# EAGLE library part AT91SAM9260 (library kwoo)
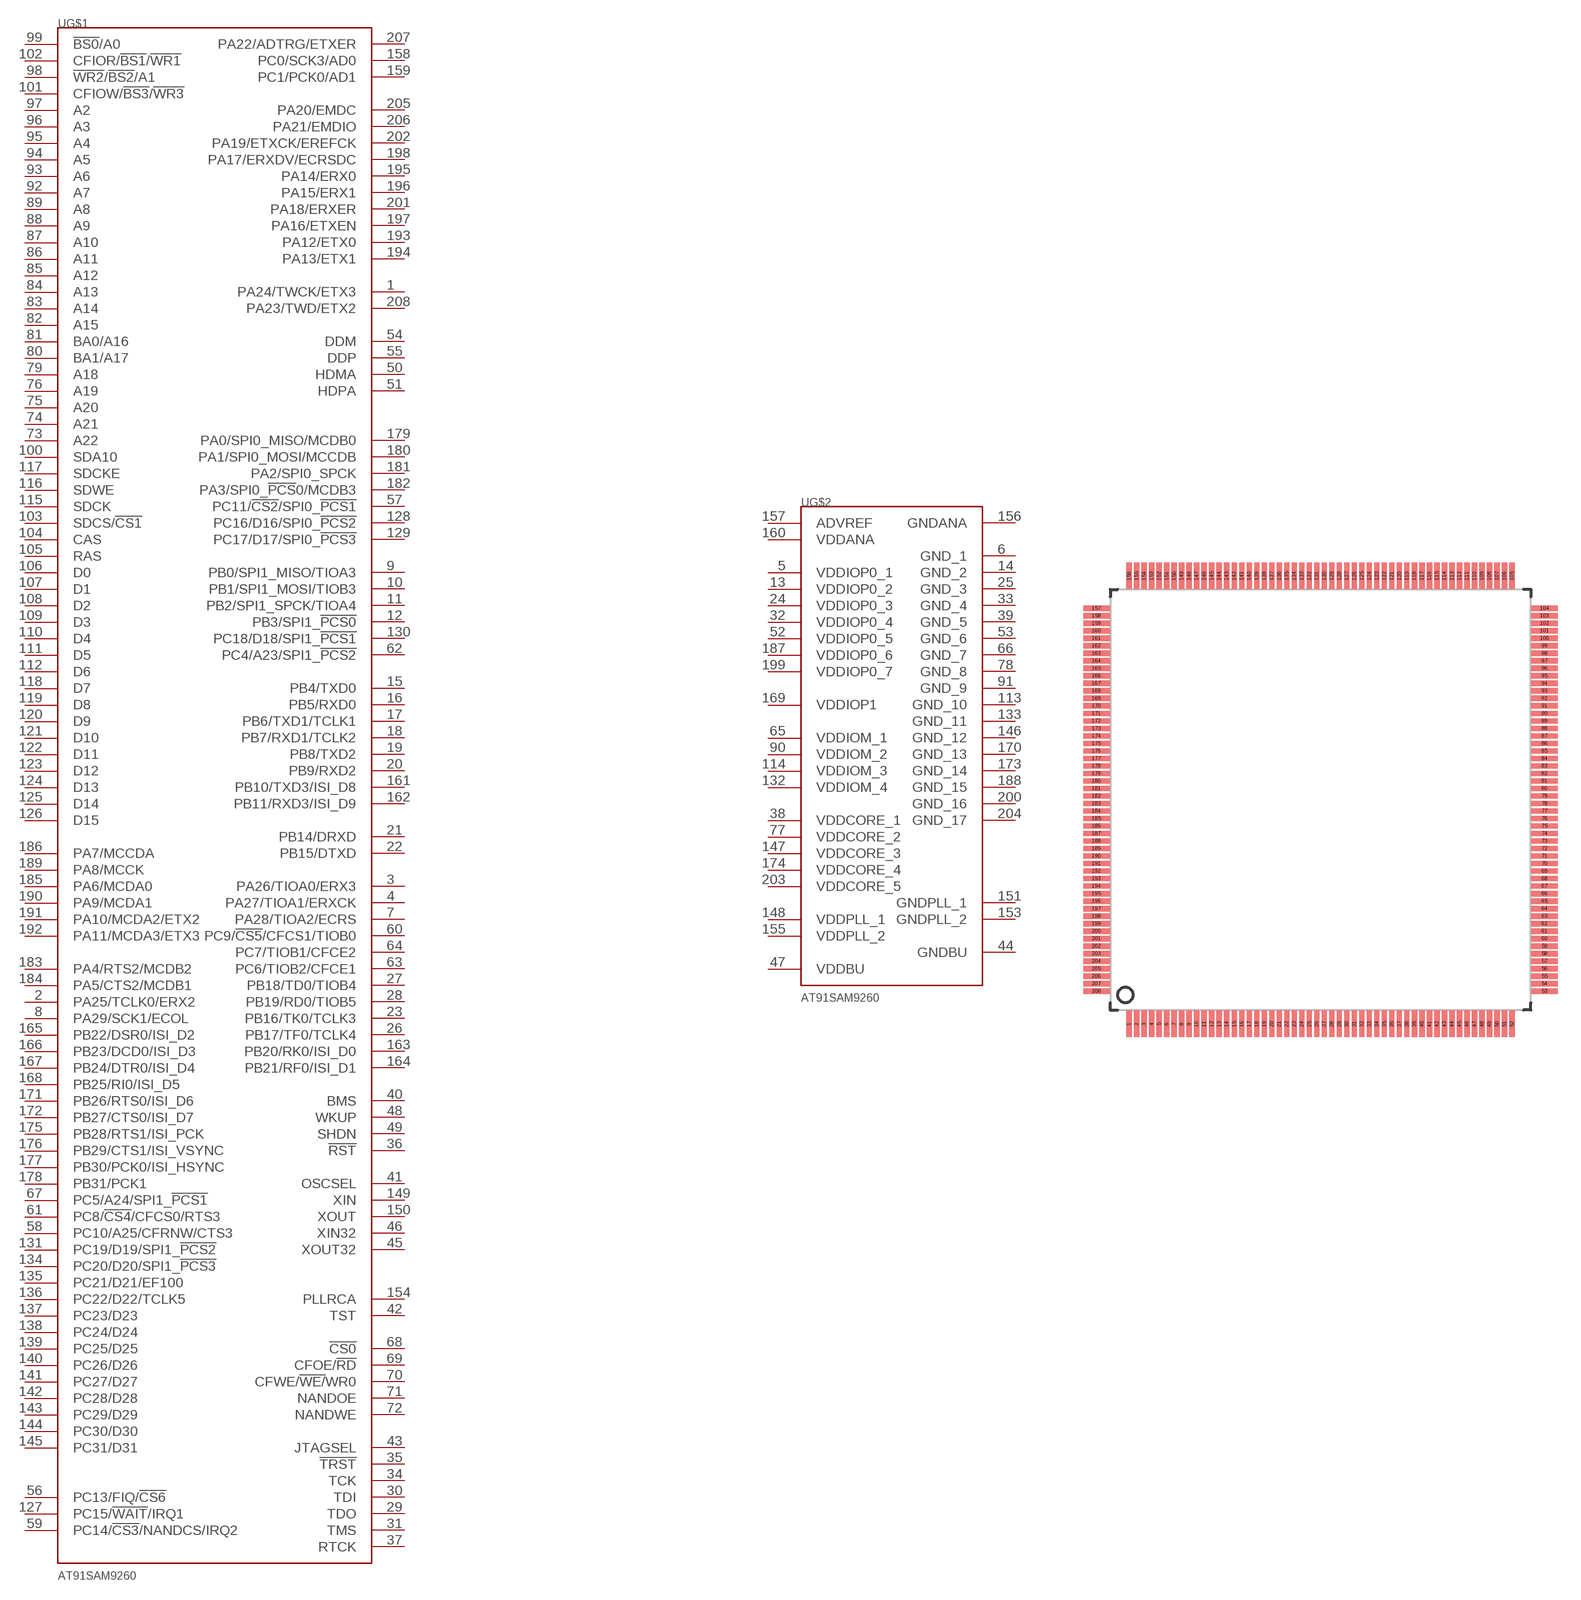
[diagram p34: symbol with the pads of 208-PQFP; footprint 208-PQFP]

Designator prefix U; gates G$1=AT91SAM9260 G$2=AT91SAM9260_PWR

## AT91SAM9260  [208-PQFP]
1  G$1:PA24/TWCK/ETX3
2  G$1:PA25/TCLK0/ERX2
3  G$1:PA26/TIOA0/ERX3
4  G$1:PA27/TIOA1/ERXCK
5  G$2:VDDIOP0_1
6  G$2:GND_1
7  G$1:PA28/TIOA2/ECRS
8  G$1:PA29/SCK1/ECOL
9  G$1:PB0/SPI1_MISO/TIOA3
10  G$1:PB1/SPI1_MOSI/TIOB3
11  G$1:PB2/SPI1_SPCK/TIOA4
12  G$1:PB3/SPI1_!PCS0
13  G$2:VDDIOP0_2
14  G$2:GND_2
15  G$1:PB4/TXD0
16  G$1:PB5/RXD0
17  G$1:PB6/TXD1/TCLK1
18  G$1:PB7/RXD1/TCLK2
19  G$1:PB8/TXD2
20  G$1:PB9/RXD2
21  G$1:PB14/DRXD
22  G$1:PB15/DTXD
23  G$1:PB16/TK0/TCLK3
24  G$2:VDDIOP0_3
25  G$2:GND_3
26  G$1:PB17/TF0/TCLK4
27  G$1:PB18/TD0/TIOB4
28  G$1:PB19/RD0/TIOB5
29  G$1:TDO
30  G$1:TDI
31  G$1:TMS
32  G$2:VDDIOP0_4
33  G$2:GND_4
34  G$1:TCK
35  G$1:!TRST
36  G$1:!RST
37  G$1:RTCK
38  G$2:VDDCORE_1
39  G$2:GND_5
40  G$1:BMS
41  G$1:OSCSEL
42  G$1:TST
43  G$1:JTAGSEL
44  G$2:GNDBU
45  G$1:XOUT32
46  G$1:XIN32
47  G$2:VDDBU
48  G$1:WKUP
49  G$1:SHDN
50  G$1:HDMA
51  G$1:HDPA
52  G$2:VDDIOP0_5
53  G$2:GND_6
54  G$1:DDM
55  G$1:DDP
56  G$1:PC13/FIQ/!CS6
57  G$1:PC11/!CS2!/SPI0_!PCS1
58  G$1:PC10/A25/CFRNW/CTS3
59  G$1:PC14/!CS3!/NANDCS/IRQ2
60  G$1:PC9/!CS5!/CFCS1/TIOB0
61  G$1:PC8/!CS4!/CFCS0/RTS3
62  G$1:PC4/A23/SPI1_!PCS2
63  G$1:PC6/TIOB2/CFCE1
64  G$1:PC7/TIOB1/CFCE2
65  G$2:VDDIOM_1
66  G$2:GND_7
67  G$1:PC5/A24/SPI1_!PCS1
68  G$1:!CS0
69  G$1:CFOE/!RD
70  G$1:CFWE/!WE/!WR0
71  G$1:NANDOE
72  G$1:NANDWE
73  G$1:A22
74  G$1:A21
75  G$1:A20
76  G$1:A19
77  G$2:VDDCORE_2
78  G$2:GND_8
79  G$1:A18
80  G$1:BA1/A17
81  G$1:BA0/A16
82  G$1:A15
83  G$1:A14
84  G$1:A13
85  G$1:A12
86  G$1:A11
87  G$1:A10
88  G$1:A9
89  G$1:A8
90  G$2:VDDIOM_2
91  G$2:GND_9
92  G$1:A7
93  G$1:A6
94  G$1:A5
95  G$1:A4
96  G$1:A3
97  G$1:A2
98  G$1:!WR2!/!BS2!/A1
99  G$1:!BS0!/A0
100  G$1:SDA10
101  G$1:CFIOW/!BS3!/!WR3
102  G$1:CFIOR/!BS1!/!WR1!
103  G$1:SDCS/!CS1
104  G$1:CAS
105  G$1:RAS
106  G$1:D0
107  G$1:D1
108  G$1:D2
109  G$1:D3
110  G$1:D4
111  G$1:D5
112  G$1:D6
113  G$2:GND_10
114  G$2:VDDIOM_3
115  G$1:SDCK
116  G$1:SDWE
117  G$1:SDCKE
118  G$1:D7
119  G$1:D8
120  G$1:D9
121  G$1:D10
122  G$1:D11
123  G$1:D12
124  G$1:D13
125  G$1:D14
126  G$1:D15
127  G$1:PC15/!WAIT!/IRQ1
128  G$1:PC16/D16/SPI0_!PCS2
129  G$1:PC17/D17/SPI0_!PCS3
130  G$1:PC18/D18/SPI1_!PCS1
131  G$1:PC19/D19/SPI1_!PCS2
132  G$2:VDDIOM_4
133  G$2:GND_11
134  G$1:PC20/D20/SPI1_!PCS3
135  G$1:PC21/D21/EF100
136  G$1:PC22/D22/TCLK5
137  G$1:PC23/D23
138  G$1:PC24/D24
139  G$1:PC25/D25
140  G$1:PC26/D26
141  G$1:PC27/D27
142  G$1:PC28/D28
143  G$1:PC29/D29
144  G$1:PC30/D30
145  G$1:PC31/D31
146  G$2:GND_12
147  G$2:VDDCORE_3
148  G$2:VDDPLL_1
149  G$1:XIN
150  G$1:XOUT
151  G$2:GNDPLL_1
153  G$2:GNDPLL_2
154  G$1:PLLRCA
155  G$2:VDDPLL_2
156  G$2:GNDANA
157  G$2:ADVREF
158  G$1:PC0/SCK3/AD0
159  G$1:PC1/PCK0/AD1
160  G$2:VDDANA
161  G$1:PB10/TXD3/ISI_D8
162  G$1:PB11/RXD3/ISI_D9
163  G$1:PB20/RK0/ISI_D0
164  G$1:PB21/RF0/ISI_D1
165  G$1:PB22/DSR0/ISI_D2
166  G$1:PB23/DCD0/ISI_D3
167  G$1:PB24/DTR0/ISI_D4
168  G$1:PB25/RI0/ISI_D5
169  G$2:VDDIOP1
170  G$2:GND_13
171  G$1:PB26/RTS0/ISI_D6
172  G$1:PB27/CTS0/ISI_D7
173  G$2:GND_14
174  G$2:VDDCORE_4
175  G$1:PB28/RTS1/ISI_PCK
176  G$1:PB29/CTS1/ISI_VSYNC
177  G$1:PB30/PCK0/ISI_HSYNC
178  G$1:PB31/PCK1
179  G$1:PA0/SPI0_MISO/MCDB0
180  G$1:PA1/SPI0_MOSI/MCCDB
181  G$1:PA2/SPI0_SPCK
182  G$1:PA3/SPI0_!PCS!0/MCDB3
183  G$1:PA4/RTS2/MCDB2
184  G$1:PA5/CTS2/MCDB1
185  G$1:PA6/MCDA0
186  G$1:PA7/MCCDA
187  G$2:VDDIOP0_6
188  G$2:GND_15
189  G$1:PA8/MCCK
190  G$1:PA9/MCDA1
191  G$1:PA10/MCDA2/ETX2
192  G$1:PA11/MCDA3/ETX3
193  G$1:PA12/ETX0
194  G$1:PA13/ETX1
195  G$1:PA14/ERX0
196  G$1:PA15/ERX1
197  G$1:PA16/ETXEN
198  G$1:PA17/ERXDV/ECRSDC
199  G$2:VDDIOP0_7
200  G$2:GND_16
201  G$1:PA18/ERXER
202  G$1:PA19/ETXCK/EREFCK
203  G$2:VDDCORE_5
204  G$2:GND_17
205  G$1:PA20/EMDC
206  G$1:PA21/EMDIO
207  G$1:PA22/ADTRG/ETXER
208  G$1:PA23/TWD/ETX2

## Footprint 208-PQFP (pad centres in mm)
smd 0.35 x 1.77: 1 -12.75,-14.925; 2 -12.25,-14.925; 3 -11.75,-14.925; 4 -11.25,-14.925; 5 -10.75,-14.925; 6 -10.25,-14.925; 7 -9.75,-14.925; 8 -9.25,-14.925; 9 -8.75,-14.925; 10 -8.25,-14.925; 11 -7.75,-14.925; 12 -7.25,-14.925; 13 -6.75,-14.925; 14 -6.25,-14.925; 15 -5.75,-14.925; 16 -5.25,-14.925; 17 -4.75,-14.925; 18 -4.25,-14.925; 19 -3.75,-14.925; 20 -3.25,-14.925; 21 -2.75,-14.925; 22 -2.25,-14.925; 23 -1.75,-14.925; 24 -1.25,-14.925; 25 -0.75,-14.925; 26 -0.25,-14.925; 27 0.25,-14.925; 28 0.75,-14.925; 29 1.25,-14.925; 30 1.75,-14.925; 31 2.25,-14.925; 32 2.75,-14.925; 33 3.25,-14.925; 34 3.75,-14.925; 35 4.25,-14.925; 36 4.75,-14.925; 37 5.25,-14.925; 38 5.75,-14.925; 39 6.25,-14.925; 40 6.75,-14.925; 41 7.25,-14.925; 42 7.75,-14.925; 43 8.25,-14.925; 44 8.75,-14.925; 45 9.25,-14.925; 46 9.75,-14.925; 47 10.25,-14.925; 48 10.75,-14.925; 49 11.25,-14.925; 50 11.75,-14.925; 51 12.25,-14.925; 52 12.75,-14.925; 105 12.75,14.925; 106 12.25,14.925; 107 11.75,14.925; 108 11.25,14.925; 109 10.75,14.925; 110 10.25,14.925; 111 9.75,14.925; 112 9.25,14.925; 113 8.75,14.925; 114 8.25,14.925; 115 7.75,14.925; 116 7.25,14.925; 117 6.75,14.925; 118 6.25,14.925; 119 5.75,14.925; 120 5.25,14.925; 121 4.75,14.925; 122 4.25,14.925; 123 3.75,14.925; 124 3.25,14.925; 125 2.75,14.925; 126 2.25,14.925; 127 1.75,14.925; 128 1.25,14.925; 129 0.75,14.925; 130 0.25,14.925; 131 -0.25,14.925; 132 -0.75,14.925; 133 -1.25,14.925; 134 -1.75,14.925; 135 -2.25,14.925; 136 -2.75,14.925; 137 -3.25,14.925; 138 -3.75,14.925; 139 -4.25,14.925; 140 -4.75,14.925; 141 -5.25,14.925; 142 -5.75,14.925; 143 -6.25,14.925; 144 -6.75,14.925; 145 -7.25,14.925; 146 -7.75,14.925; 147 -8.25,14.925; 148 -8.75,14.925; 149 -9.25,14.925; 150 -9.75,14.925; 151 -10.25,14.925; 152 -10.75,14.925; 153 -11.25,14.925; 154 -11.75,14.925; 155 -12.25,14.925; 156 -12.75,14.925
smd 1.77 x 0.35: 53 14.925,-12.75; 54 14.925,-12.25; 55 14.925,-11.75; 56 14.925,-11.25; 57 14.925,-10.75; 58 14.925,-10.25; 59 14.925,-9.75; 60 14.925,-9.25; 61 14.925,-8.75; 62 14.925,-8.25; 63 14.925,-7.75; 64 14.925,-7.25; 65 14.925,-6.75; 66 14.925,-6.25; 67 14.925,-5.75; 68 14.925,-5.25; 69 14.925,-4.75; 70 14.925,-4.25; 71 14.925,-3.75; 72 14.925,-3.25; 73 14.925,-2.75; 74 14.925,-2.25; 75 14.925,-1.75; 76 14.925,-1.25; 77 14.925,-0.75; 78 14.925,-0.25; 79 14.925,0.25; 80 14.925,0.75; 81 14.925,1.25; 82 14.925,1.75; 83 14.925,2.25; 84 14.925,2.75; 85 14.925,3.25; 86 14.925,3.75; 87 14.925,4.25; 88 14.925,4.75; 89 14.925,5.25; 90 14.925,5.75; 91 14.925,6.25; 92 14.925,6.75; 93 14.925,7.25; 94 14.925,7.75; 95 14.925,8.25; 96 14.925,8.75; 97 14.925,9.25; 98 14.925,9.75; 99 14.925,10.25; 100 14.925,10.75; 101 14.925,11.25; 102 14.925,11.75; 103 14.925,12.25; 104 14.925,12.75; 157 -14.925,12.75; 158 -14.925,12.25; 159 -14.925,11.75; 160 -14.925,11.25; 161 -14.925,10.75; 162 -14.925,10.25; 163 -14.925,9.75; 164 -14.925,9.25; 165 -14.925,8.75; 166 -14.925,8.25; 167 -14.925,7.75; 168 -14.925,7.25; 169 -14.925,6.75; 170 -14.925,6.25; 171 -14.925,5.75; 172 -14.925,5.25; 173 -14.925,4.75; 174 -14.925,4.25; 175 -14.925,3.75; 176 -14.925,3.25; 177 -14.925,2.75; 178 -14.925,2.25; 179 -14.925,1.75; 180 -14.925,1.25; 181 -14.925,0.75; 182 -14.925,0.25; 183 -14.925,-0.25; 184 -14.925,-0.75; 185 -14.925,-1.25; 186 -14.925,-1.75; 187 -14.925,-2.25; 188 -14.925,-2.75; 189 -14.925,-3.25; 190 -14.925,-3.75; 191 -14.925,-4.25; 192 -14.925,-4.75; 193 -14.925,-5.25; 194 -14.925,-5.75; 195 -14.925,-6.25; 196 -14.925,-6.75; 197 -14.925,-7.25; 198 -14.925,-7.75; 199 -14.925,-8.25; 200 -14.925,-8.75; 201 -14.925,-9.25; 202 -14.925,-9.75; 203 -14.925,-10.25; 204 -14.925,-10.75; 205 -14.925,-11.25; 206 -14.925,-11.75; 207 -14.925,-12.25; 208 -14.925,-12.75